# Altium footprint library Molex Footprints.PcbLib: 498 footprints (part 14 of 32)
Each footprint in its own frame and in the unit in brackets; x right, y up, seen from the top. Pads: shape width x height; smd on the part's side, far side on the other; paste and mask are expansions set on the pad; w line width, h text height; cw(c..) or ccw(c..) is an arc to the next point about the centre after c.
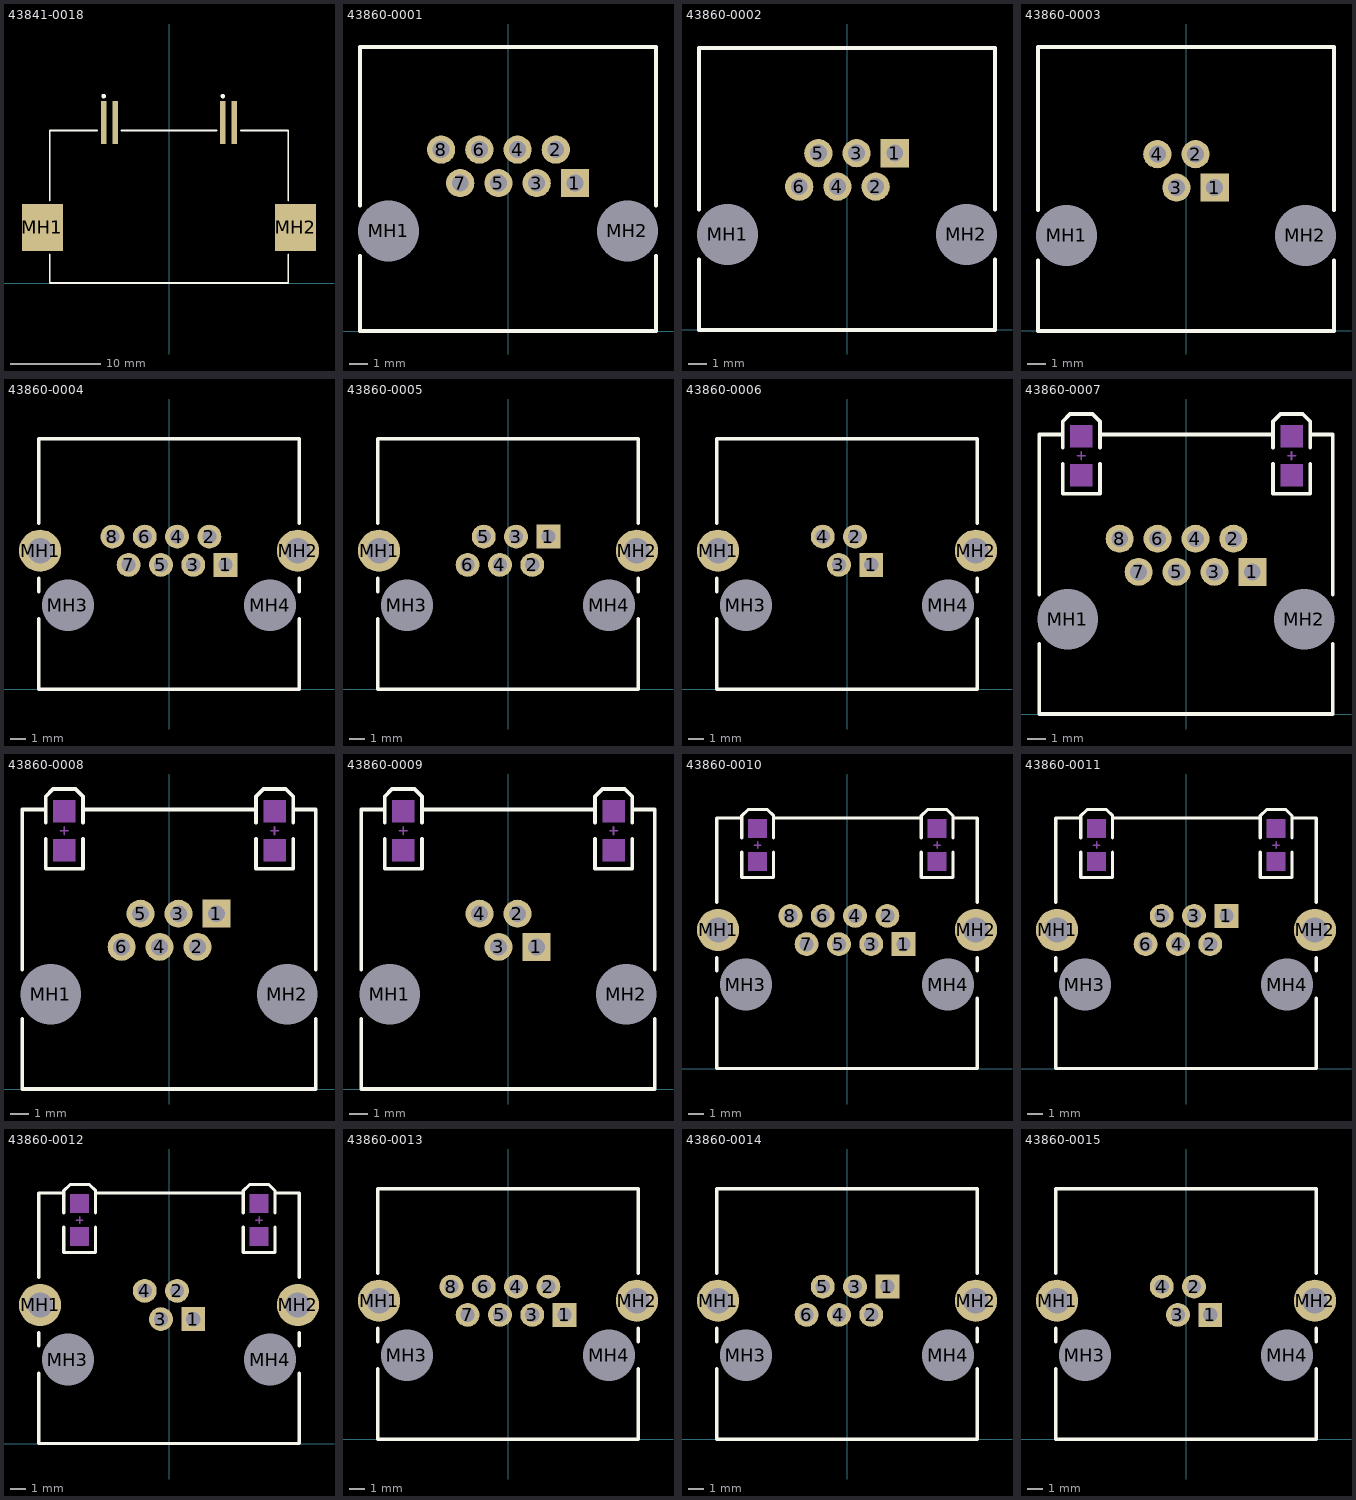
[diagram p13: the footprints below, top view; thin cyan lines are the x and y axes]

## 43841-0018 [mil] "Connector; PCB Jack, SM; 2-Port, 6 Positions, 2 Loaded; Unshielded without Lightpipes; Right Angle"
height 464.57
pads (6):
  rect 25x187 smd: A1(-285,700.5) A2(-235,700.5) B1(235,700.5) B2(285,700.5)
  rect 178x205 smd: MH1(-552,242.5) MH2(552,242.5)
Top Overlay:
  circle w9.84: c235,815.65 r4.92
  circle w9.84: c-285,815.65 r4.92
  lines w7.87: -520,124.25 -520,0 520,0 520,124.25 ; -520,360.75 -520,665 -313.25,665 ; -206.75,665 206.75,665 ; 313.25,665 520,665 520,360.75

## 43860-0001 [mm] "Connector; PCB Jack, Thru-Hole; 1-Port, 8 Positions, 8 Loaded; Unshielded without Lightpipes; Right Angle"
height 13.21
pads (10):
  rect 1.5x1.5 hole 0.9: 1(3.556,7.87)
  round 1.5 hole 0.9: 2(2.54,9.648) 3(1.524,7.87) 4(0.508,9.648) 5(-0.508,7.87) 6(-1.524,9.648) 7(-2.54,7.87) 8(-3.556,9.648)
  round 2.95 hole 3.25 unplated: MH1(-6.35,5.33) MH2(6.35,5.33)
Top Overlay:
  lines w0.2: -7.875,3.998 -7.875,0 7.875,0 7.875,3.998 ; -7.875,6.662 -7.875,15.11 7.875,15.11 7.875,6.662

## 43860-0002 [mm] "Connector; PCB Jack, Thru-Hole; 1-Port, 6 Positions, 6 Loaded; Unshielded without Lightpipes; Right Angle"
height 13.21
pads (8):
  rect 1.5x1.5 hole 0.9: 1(2.54,9.398)
  round 1.5 hole 0.9: 2(1.524,7.62) 3(0.508,9.398) 4(-0.508,7.62) 5(-1.524,9.398) 6(-2.54,7.62)
  round 2.95 hole 3.25 unplated: MH1(-6.35,5.08) MH2(6.35,5.08)
Top Overlay:
  lines w0.2: -7.875,3.748 -7.875,0 7.875,0 7.875,3.748 ; -7.875,6.412 -7.875,14.99 7.875,14.99 7.875,6.412

## 43860-0003 [mm] "Connector; PCB Jack, Thru-Hole; 1-Port, 6 Positions, 4 Loaded; Unshielded without Lightpipes; Right Angle"
height 13.21
pads (6):
  rect 1.5x1.5 hole 0.9: 1(1.524,7.62)
  round 1.5 hole 0.9: 2(0.508,9.398) 3(-0.508,7.62) 4(-1.524,9.398)
  round 2.95 hole 3.25 unplated: MH1(-6.35,5.08) MH2(6.35,5.08)
Top Overlay:
  lines w0.2: -7.875,3.748 -7.875,0 7.875,0 7.875,3.748 ; -7.875,6.412 -7.875,15.09 7.875,15.09 7.875,6.412

## 43860-0004 [mm] "Connector; PCB Jack, Thru-Hole; 1-Port, 8 Positions, 8 Loaded; Shielded without Lightpipes; Right Angle"
height 13.54
pads (12):
  rect 1.5x1.5 hole 0.9: 1(3.556,7.82)
  round 1.5 hole 0.9: 2(2.54,9.598) 3(1.524,7.82) 4(0.508,9.598) 5(-0.508,7.82) 6(-1.524,9.598) 7(-2.54,7.82) 8(-3.556,9.598)
  round 2.65 hole 1.6: MH1(-8.103,8.709) MH2(8.103,8.709)
  round 2.95 hole 3.25 unplated: MH3(-6.35,5.28) MH4(6.35,5.28)
Top Overlay:
  lines w0.2: -8.19,4.434 -8.19,0 8.19,0 8.19,4.434 ; -8.19,6.126 -8.19,6.986 ; -8.19,10.432 -8.19,15.75 8.19,15.75 8.19,10.432 ; 8.19,6.126 8.19,6.986

## 43860-0005 [mm] "Connector; PCB Jack, Thru-Hole; 1-Port, 6 Positions, 6 Loaded; Shielded without Lightpipes; Right Angle"
height 13.54
pads (10):
  rect 1.5x1.5 hole 0.9: 1(2.54,9.598)
  round 1.5 hole 0.9: 2(1.524,7.82) 3(0.508,9.598) 4(-0.508,7.82) 5(-1.524,9.598) 6(-2.54,7.82)
  round 2.65 hole 1.6: MH1(-8.103,8.709) MH2(8.103,8.709)
  round 2.95 hole 3.25 unplated: MH3(-6.35,5.28) MH4(6.35,5.28)
Top Overlay:
  lines w0.2: -8.19,4.434 -8.19,0 8.19,0 8.19,4.434 ; -8.19,6.126 -8.19,6.986 ; -8.19,10.432 -8.19,15.75 8.19,15.75 8.19,10.432 ; 8.19,6.126 8.19,6.986

## 43860-0006 [mm] "Connector; PCB Jack, Thru-Hole; 1-Port, 6 Positions, 4 Loaded; Shielded without Lightpipes; Right Angle"
height 13.54
pads (8):
  rect 1.5x1.5 hole 0.9: 1(1.524,7.82)
  round 1.5 hole 0.9: 2(0.508,9.598) 3(-0.508,7.82) 4(-1.524,9.598)
  round 2.65 hole 1.6: MH1(-8.103,8.709) MH2(8.103,8.709)
  round 2.95 hole 3.25 unplated: MH3(-6.35,5.28) MH4(6.35,5.28)
Top Overlay:
  lines w0.2: -8.19,4.434 -8.19,0 8.19,0 8.19,4.434 ; -8.19,6.126 -8.19,6.986 ; -8.19,10.432 -8.19,15.75 8.19,15.75 8.19,10.432 ; 8.19,6.126 8.19,6.986

## 43860-0007 [mm] "Connector; PCB Jack, Thru-Hole; 1-Port, 8 Positions, 8 Loaded; Unshielded with Lightpipes; Right Angle"
height 13.21
pads (10):
  rect 1.5x1.5 hole 0.9: 1(3.556,7.62)
  round 1.5 hole 0.9: 2(2.54,9.398) 3(1.524,7.62) 4(0.508,9.398) 5(-0.508,7.62) 6(-1.524,9.398) 7(-2.54,7.62) 8(-3.556,9.398)
  round 2.95 hole 3.25 unplated: MH1(-6.35,5.08) MH2(6.35,5.08)
Top Overlay:
  lines w0.2: -7.875,3.748 -7.875,0 7.875,0 7.875,3.748 ; -7.875,6.412 -7.875,14.99 -6.613,14.99 ; -6.613,13.402 -6.613,11.802 -4.613,11.802 -4.613,13.402 ; -6.613,14.284 -6.613,15.684 -6.213,16.084 -5.013,16.084 -4.613,15.684 -4.613,14.284 ; -4.613,14.99 4.664,14.99 ; 4.664,13.402 4.664,11.802 6.664,11.802 6.664,13.402 ; 4.664,14.284 4.664,15.684 5.064,16.084 6.264,16.084 6.664,15.684 6.664,14.284 ; 6.664,14.99 7.875,14.99 7.875,6.412
Mechanical 1:
  rectangle: 5.064,14.284 6.264,15.484
  rectangle: 5.064,12.202 6.264,13.402
  rectangle: -6.213,14.284 -5.013,15.484
  rectangle: -6.213,12.202 -5.013,13.402
  lines w0.1: -5.813,13.843 -5.613,13.843 ; -5.613,13.643 -5.613,13.843 ; -5.613,14.043 -5.613,13.843 ; -5.413,13.843 -5.613,13.843 ; 5.464,13.843 5.664,13.843 ; 5.664,13.643 5.664,13.843 ; 5.664,14.043 5.664,13.843 ; 5.864,13.843 5.664,13.843

## 43860-0008 [mm] "Connector; PCB Jack, Thru-Hole; 1-Port, 6 Positions, 6 Loaded; Unshielded with Lightpipes; Right Angle"
height 13.21
pads (8):
  rect 1.5x1.5 hole 0.9: 1(2.54,9.398)
  round 1.5 hole 0.9: 2(1.524,7.62) 3(0.508,9.398) 4(-0.508,7.62) 5(-1.524,9.398) 6(-2.54,7.62)
  round 2.95 hole 3.25 unplated: MH1(-6.35,5.08) MH2(6.35,5.08)
Top Overlay:
  lines w0.2: -7.875,3.748 -7.875,0 7.875,0 7.875,3.748 ; -7.875,6.412 -7.875,14.99 -6.613,14.99 ; -6.613,13.402 -6.613,11.802 -4.613,11.802 -4.613,13.402 ; -6.613,14.284 -6.613,15.684 -6.213,16.084 -5.013,16.084 -4.613,15.684 -4.613,14.284 ; -4.613,14.99 4.664,14.99 ; 4.664,13.402 4.664,11.802 6.664,11.802 6.664,13.402 ; 4.664,14.284 4.664,15.684 5.064,16.084 6.264,16.084 6.664,15.684 6.664,14.284 ; 6.664,14.99 7.875,14.99 7.875,6.412
Mechanical 1:
  rectangle: 5.064,14.284 6.264,15.484
  rectangle: 5.064,12.202 6.264,13.402
  rectangle: -6.213,14.284 -5.013,15.484
  rectangle: -6.213,12.202 -5.013,13.402
  lines w0.1: -5.813,13.843 -5.613,13.843 ; -5.613,13.643 -5.613,13.843 ; -5.613,14.043 -5.613,13.843 ; -5.413,13.843 -5.613,13.843 ; 5.464,13.843 5.664,13.843 ; 5.664,13.643 5.664,13.843 ; 5.664,14.043 5.664,13.843 ; 5.864,13.843 5.664,13.843

## 43860-0009 [mm] "Connector; PCB Jack, Thru-Hole; 1-Port, 6 Positions, 4 Loaded; Unshielded with Lightpipes; Right Angle"
height 13.21
pads (6):
  rect 1.5x1.5 hole 0.9: 1(1.524,7.62)
  round 1.5 hole 0.9: 2(0.508,9.398) 3(-0.508,7.62) 4(-1.524,9.398)
  round 2.95 hole 3.25 unplated: MH1(-6.35,5.08) MH2(6.35,5.08)
Top Overlay:
  lines w0.2: -7.875,3.748 -7.875,0 7.875,0 7.875,3.748 ; -7.875,6.412 -7.875,14.99 -6.613,14.99 ; -6.613,13.402 -6.613,11.802 -4.613,11.802 -4.613,13.402 ; -6.613,14.284 -6.613,15.684 -6.213,16.084 -5.013,16.084 -4.613,15.684 -4.613,14.284 ; -4.613,14.99 4.664,14.99 ; 4.664,13.402 4.664,11.802 6.664,11.802 6.664,13.402 ; 4.664,14.284 4.664,15.684 5.064,16.084 6.264,16.084 6.664,15.684 6.664,14.284 ; 6.664,14.99 7.875,14.99 7.875,6.412
Mechanical 1:
  rectangle: -6.213,12.202 -5.013,13.402
  rectangle: -6.213,14.284 -5.013,15.484
  rectangle: 5.064,12.202 6.264,13.402
  rectangle: 5.064,14.284 6.264,15.484
  lines w0.1: -5.813,13.843 -5.613,13.843 ; -5.613,13.643 -5.613,13.843 ; -5.613,14.043 -5.613,13.843 ; -5.413,13.843 -5.613,13.843 ; 5.464,13.843 5.664,13.843 ; 5.664,13.643 5.664,13.843 ; 5.664,14.043 5.664,13.843 ; 5.864,13.843 5.664,13.843

## 43860-0010 [mm] "Connector; PCB Jack, Thru-Hole; 1-Port, 8 Positions, 8 Loaded; Shielded with Lightpipes; Right Angle"
height 13.53
pads (12):
  rect 1.5x1.5 hole 0.9: 1(3.556,7.82)
  round 1.5 hole 0.9: 2(2.54,9.598) 3(1.524,7.82) 4(0.508,9.598) 5(-0.508,7.82) 6(-1.524,9.598) 7(-2.54,7.82) 8(-3.556,9.598)
  round 2.65 hole 1.6: MH1(-8.103,8.709) MH2(8.103,8.709)
  round 2.95 hole 3.25 unplated: MH3(-6.35,5.28) MH4(6.35,5.28)
Top Overlay:
  lines w0.2: -8.19,4.434 -8.19,0 8.19,0 8.19,4.434 ; -8.19,6.126 -8.19,6.986 ; -8.19,10.432 -8.19,15.75 -6.613,15.75 ; -6.613,13.602 -6.613,12.002 -4.613,12.002 -4.613,13.602 ; -6.613,14.484 -6.613,15.884 -6.213,16.284 -5.013,16.284 -4.613,15.884 -4.613,14.484 ; -4.613,15.75 4.664,15.75 ; 4.664,13.602 4.664,12.002 6.664,12.002 6.664,13.602 ; 4.664,14.484 4.664,15.884 5.064,16.284 6.264,16.284 6.664,15.884 6.664,14.484 ; 6.664,15.75 8.19,15.75 8.19,10.432 ; 8.19,6.126 8.19,6.986
Mechanical 1:
  rectangle: -6.213,12.402 -5.013,13.602
  rectangle: -6.213,14.484 -5.013,15.684
  rectangle: 5.064,12.402 6.264,13.602
  rectangle: 5.064,14.484 6.264,15.684
  lines w0.1: -5.813,14.043 -5.613,14.043 ; -5.613,13.843 -5.613,14.043 ; -5.613,14.243 -5.613,14.043 ; -5.413,14.043 -5.613,14.043 ; 5.464,14.043 5.664,14.043 ; 5.664,13.843 5.664,14.043 ; 5.664,14.243 5.664,14.043 ; 5.864,14.043 5.664,14.043

## 43860-0011 [mm] "Connector; PCB Jack, Thru-Hole; 1-Port, 6 Positions, 6 Loaded; Shielded with Lightpipes; Right Angle"
height 13.53
pads (10):
  rect 1.5x1.5 hole 0.9: 1(2.54,9.598)
  round 1.5 hole 0.9: 2(1.524,7.82) 3(0.508,9.598) 4(-0.508,7.82) 5(-1.524,9.598) 6(-2.54,7.82)
  round 2.65 hole 1.6: MH1(-8.103,8.709) MH2(8.103,8.709)
  round 2.95 hole 3.25 unplated: MH3(-6.35,5.28) MH4(6.35,5.28)
Top Overlay:
  lines w0.2: -8.19,4.434 -8.19,0 8.19,0 8.19,4.434 ; -8.19,6.126 -8.19,6.986 ; -8.19,10.432 -8.19,15.75 -6.613,15.75 ; -6.613,13.602 -6.613,12.002 -4.613,12.002 -4.613,13.602 ; -6.613,14.484 -6.613,15.884 -6.213,16.284 -5.013,16.284 -4.613,15.884 -4.613,14.484 ; -4.613,15.75 4.664,15.75 ; 4.664,13.602 4.664,12.002 6.664,12.002 6.664,13.602 ; 4.664,14.484 4.664,15.884 5.064,16.284 6.264,16.284 6.664,15.884 6.664,14.484 ; 6.664,15.75 8.19,15.75 8.19,10.432 ; 8.19,6.126 8.19,6.986
Mechanical 1:
  rectangle: 5.064,14.484 6.264,15.684
  rectangle: 5.064,12.402 6.264,13.602
  rectangle: -6.213,14.484 -5.013,15.684
  rectangle: -6.213,12.402 -5.013,13.602
  lines w0.1: -5.813,14.043 -5.613,14.043 ; -5.613,13.843 -5.613,14.043 ; -5.613,14.243 -5.613,14.043 ; -5.413,14.043 -5.613,14.043 ; 5.464,14.043 5.664,14.043 ; 5.664,13.843 5.664,14.043 ; 5.664,14.243 5.664,14.043 ; 5.864,14.043 5.664,14.043

## 43860-0012 [mm] "Connector; PCB Jack, Thru-Hole; 1-Port, 6 Positions, 4 Loaded; Shielded with Lightpipes; Right Angle"
height 13.53
pads (8):
  rect 1.5x1.5 hole 0.9: 1(1.524,7.82)
  round 1.5 hole 0.9: 2(0.508,9.598) 3(-0.508,7.82) 4(-1.524,9.598)
  round 2.65 hole 1.6: MH1(-8.103,8.709) MH2(8.103,8.709)
  round 2.95 hole 3.25 unplated: MH3(-6.35,5.28) MH4(6.35,5.28)
Top Overlay:
  lines w0.2: -8.19,4.434 -8.19,0 8.19,0 8.19,4.434 ; -8.19,6.126 -8.19,6.986 ; -8.19,10.432 -8.19,15.75 -6.613,15.75 ; -6.613,13.602 -6.613,12.002 -4.613,12.002 -4.613,13.602 ; -6.613,14.484 -6.613,15.884 -6.213,16.284 -5.013,16.284 -4.613,15.884 -4.613,14.484 ; -4.613,15.75 4.664,15.75 ; 4.664,13.602 4.664,12.002 6.664,12.002 6.664,13.602 ; 4.664,14.484 4.664,15.884 5.064,16.284 6.264,16.284 6.664,15.884 6.664,14.484 ; 6.664,15.75 8.19,15.75 8.19,10.432 ; 8.19,6.126 8.19,6.986
Mechanical 1:
  rectangle: 5.064,14.484 6.264,15.684
  rectangle: 5.064,12.402 6.264,13.602
  rectangle: -6.213,14.484 -5.013,15.684
  rectangle: -6.213,12.402 -5.013,13.602
  lines w0.1: -5.813,14.043 -5.613,14.043 ; -5.613,13.843 -5.613,14.043 ; -5.613,14.243 -5.613,14.043 ; -5.413,14.043 -5.613,14.043 ; 5.464,14.043 5.664,14.043 ; 5.664,13.843 5.664,14.043 ; 5.664,14.243 5.664,14.043 ; 5.864,14.043 5.664,14.043

## 43860-0013 [mm] "Connector; PCB Jack, Thru-Hole; 1-Port, 8 Positions, 8 Loaded; Shielded without Lightpipes; Right Angle"
height 13.54
pads (12):
  rect 1.5x1.5 hole 0.9: 1(3.556,7.82)
  round 1.5 hole 0.9: 2(2.54,9.598) 3(1.524,7.82) 4(0.508,9.598) 5(-0.508,7.82) 6(-1.524,9.598) 7(-2.54,7.82) 8(-3.556,9.598)
  round 2.65 hole 1.6: MH1(-8.103,8.709) MH2(8.103,8.709)
  round 2.95 hole 3.25 unplated: MH3(-6.35,5.28) MH4(6.35,5.28)
Top Overlay:
  lines w0.2: -8.19,4.434 -8.19,0 8.19,0 8.19,4.434 ; -8.19,6.126 -8.19,6.986 ; -8.19,10.432 -8.19,15.75 8.19,15.75 8.19,10.432 ; 8.19,6.126 8.19,6.986

## 43860-0014 [mm] "Connector; PCB Jack, Thru-Hole; 1-Port, 6 Positions, 6 Loaded; Shielded without Lightpipes; Right Angle"
height 13.54
pads (10):
  rect 1.5x1.5 hole 0.9: 1(2.54,9.598)
  round 1.5 hole 0.9: 2(1.524,7.82) 3(0.508,9.598) 4(-0.508,7.82) 5(-1.524,9.598) 6(-2.54,7.82)
  round 2.65 hole 1.6: MH1(-8.103,8.709) MH2(8.103,8.709)
  round 2.95 hole 3.25 unplated: MH3(-6.35,5.28) MH4(6.35,5.28)
Top Overlay:
  lines w0.2: -8.19,4.434 -8.19,0 8.19,0 8.19,4.434 ; -8.19,6.126 -8.19,6.986 ; -8.19,10.432 -8.19,15.75 8.19,15.75 8.19,10.432 ; 8.19,6.126 8.19,6.986

## 43860-0015 [mm] "Connector; PCB Jack, Thru-Hole; 1-Port, 6 Positions, 4 Loaded; Shielded without Lightpipes; Right Angle"
height 13.54
pads (8):
  rect 1.5x1.5 hole 0.9: 1(1.524,7.82)
  round 1.5 hole 0.9: 2(0.508,9.598) 3(-0.508,7.82) 4(-1.524,9.598)
  round 2.65 hole 1.6: MH1(-8.103,8.709) MH2(8.103,8.709)
  round 2.95 hole 3.25 unplated: MH3(-6.35,5.28) MH4(6.35,5.28)
Top Overlay:
  lines w0.2: -8.19,4.434 -8.19,0 8.19,0 8.19,4.434 ; -8.19,6.126 -8.19,6.986 ; -8.19,10.432 -8.19,15.75 8.19,15.75 8.19,10.432 ; 8.19,6.126 8.19,6.986